# Altium footprint library SOT95P280X100-5L30L.PcbLib: 2 footprints
Each footprint in its own frame and in the unit in brackets; x right, y up, seen from the top. Pads: shape width x height; smd on the part's side, far side on the other; paste and mask are expansions set on the pad; w line width, h text height; cw(c..) or ccw(c..) is an arc to the next point about the centre after c.
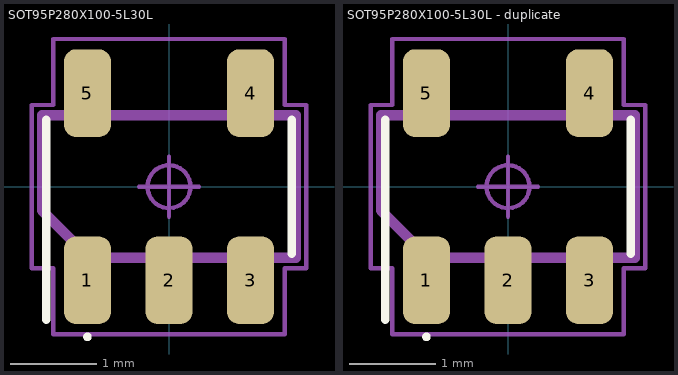
[diagram p0: the footprints below, top view; thin cyan lines are the x and y axes]

## SOT95P280X100-5L30L [mm] "Small Outline Transistor (SOT23), 0.95 mm pitch; 5 pin, 2.90 mm L X 1.60 mm W X 1.00 mm H body"
height 1
pads (5):
  rrect51% 0.55x1.02 smd: 1(-0.95,-1.09) 2(0,-1.09) 3(0.95,-1.09) 4(0.95,1.09) 5(-0.95,1.09)
Top Overlay:
  circle w0.05: c-0.95,-1.75 r0.025
  lines w0.1: -1.43,-1.55 -1.43,0.78 ; 1.43,-0.78 1.43,0.78
Mechanical 11:
  lines w0.12: -1.48,-0.277 -1.48,0.83 1.48,0.83 1.48,-0.83 -0.927,-0.83 -1.48,-0.277
Mechanical 15:
  circle w0.05: c0,0 r0.25
  lines w0.05: -0.35,0 0.35,0 ; 0,-0.35 0,0.35 ; -1.6,-0.95 -1.6,0.95 -1.35,0.95 -1.35,1.72 1.35,1.72 1.35,0.95 1.6,0.95 1.6,-0.95 1.35,-0.95 1.35,-1.72 -1.35,-1.72 -1.35,-0.95 -1.6,-0.95
3D body: height 1.1, standoff 0, extent -1.45,-1.405 1.45,1.405

## SOT95P280X100-5L30L - duplicate [mm]
pads (5):
  rrect51% 0.55x1.02 smd: 1(-0.95,-1.09) 2(0,-1.09) 3(0.95,-1.09) 4(0.95,1.09) 5(-0.95,1.09)
Top Overlay:
  circle w0.05: c-0.95,-1.75 r0.025
  lines w0.1: -1.43,-1.55 -1.43,0.78 ; 1.43,-0.78 1.43,0.78
Mechanical 11:
  lines w0.12: -1.48,-0.277 -0.927,-0.83 1.48,-0.83 1.48,0.83 -1.48,0.83 -1.48,-0.277
Mechanical 15:
  circle w0.05: c0,0 r0.25
  lines w0.05: -0.35,0 0.35,0 ; 0,-0.35 0,0.35 ; -1.6,-0.95 -1.35,-0.95 -1.35,-1.72 1.35,-1.72 1.35,-0.95 1.6,-0.95 1.6,0.95 1.35,0.95 1.35,1.72 -1.35,1.72 -1.35,0.95 -1.6,0.95 -1.6,-0.95
3D body: height 1.13, standoff 0.03, extent -1.45,-1.405 1.45,1.405